# Altium integrated library Linear Technology PMIC-Switching Reg LTC1174-LTC3901.IntLib: 2647 symbols (part 294 of 310)
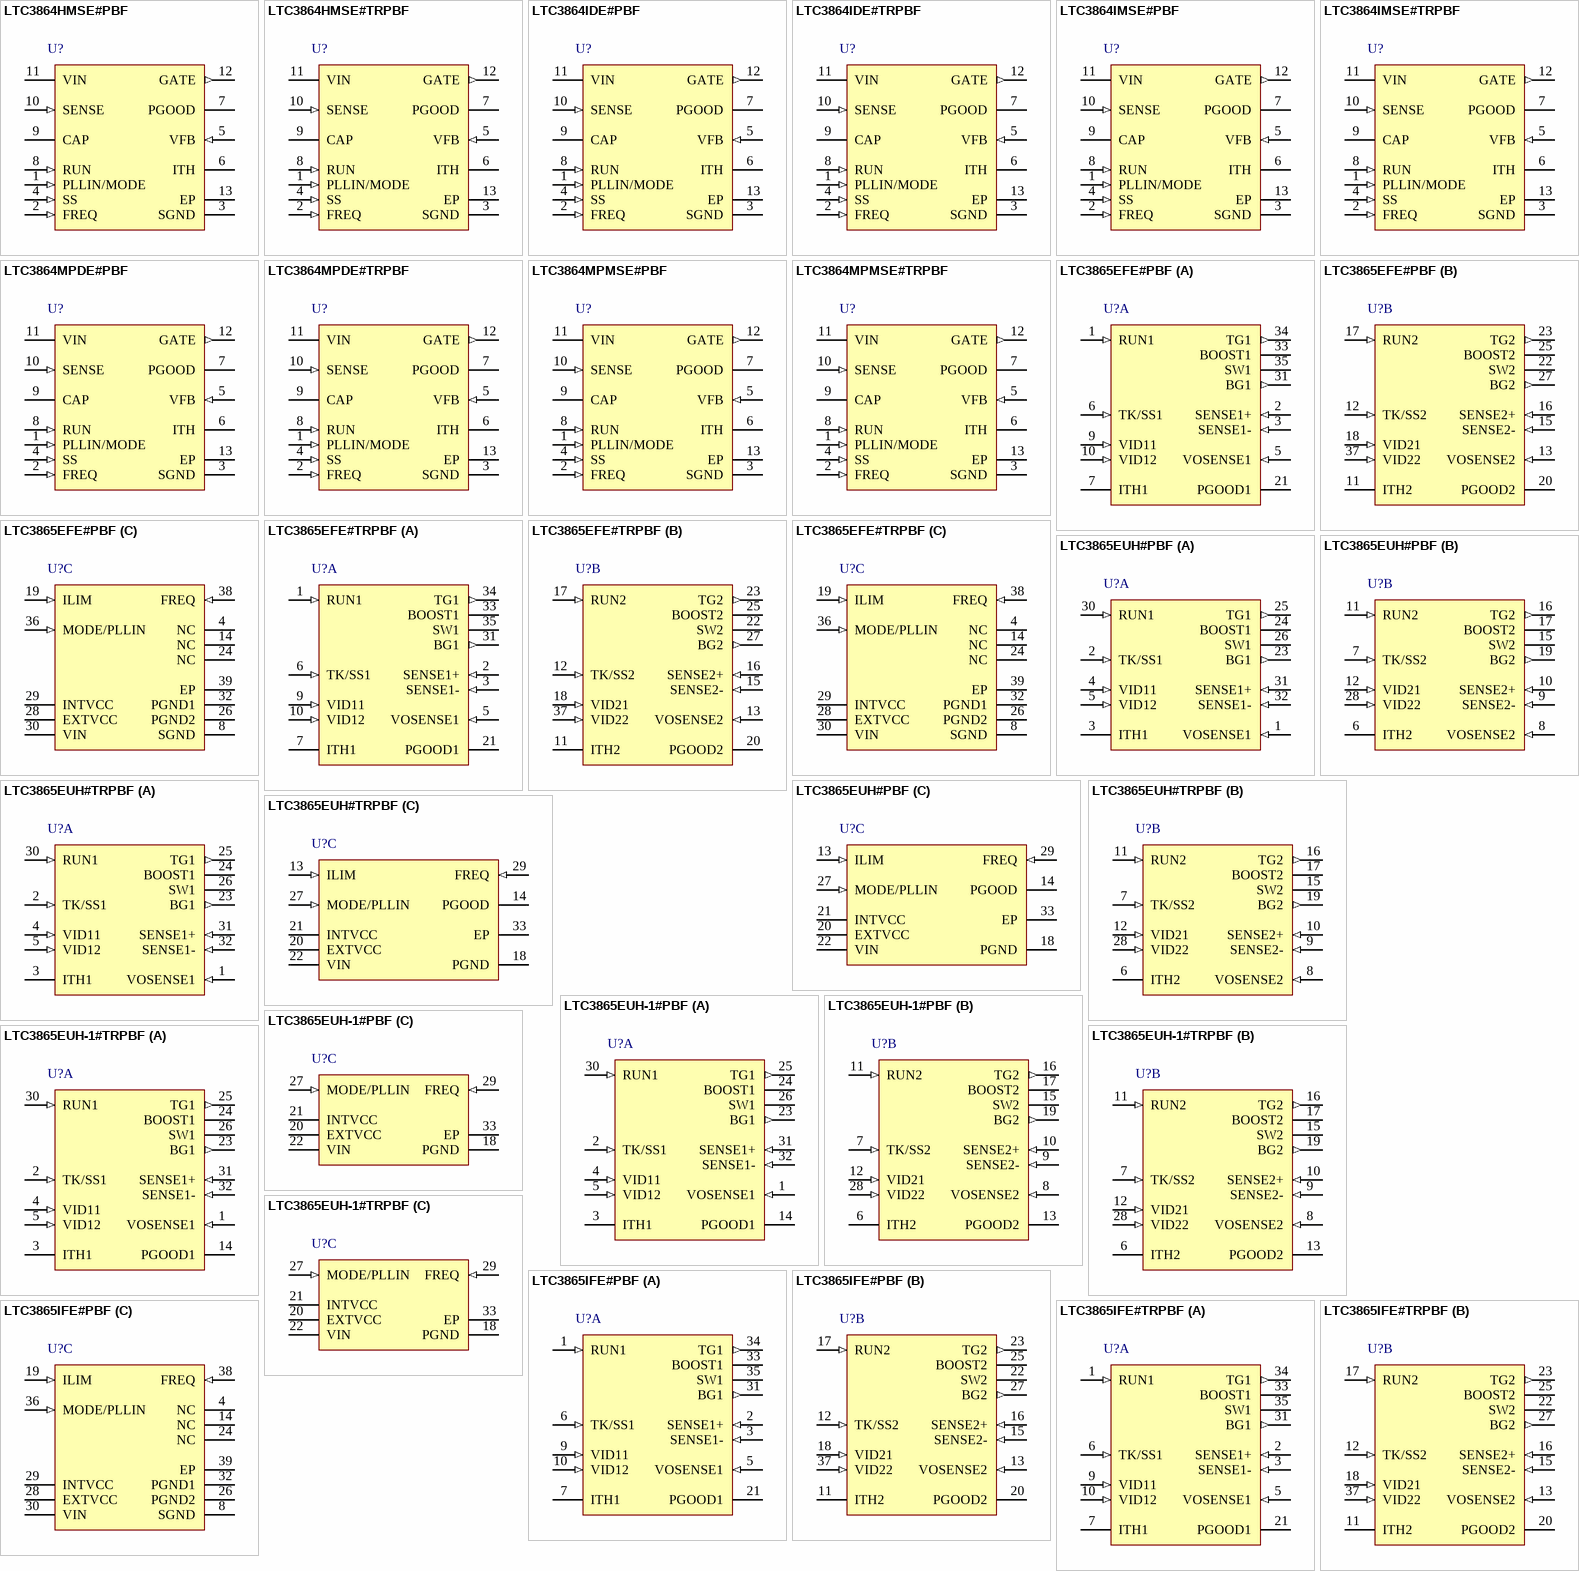
[diagram p294: symbols LTC3864HMSE#PBF to LTC3865IFE#TRPBF]

## LTC3865EUH#TRPBF
designator U?
Dual, 2-Phase Synchronous DC/DC Controller with Pin Selectable Output, Adjustable Current Limit, 32-pin QFN (UH-32), -40 to 125 degC, Pb-Free, Tape and Reel; Manufacturer: Linear Technology; PartNumber: LTC3865EUH#TRPBF; Number of Outputs: 2; PackageReference: UH-32; PackageDescription: 32-Pin Plastic QFN, Body 5 x 5 mm, Pitch 0.5 mm; Supplier 1: Digi-Key; Supplier Part Number 1: LTC3865EUH#TRPBF-ND; RoHS: TRUE; Code_JEDEC: MO-220
footprint LT-UH-32_N (QFN, 32-Leads, Body 5.1x5.1mm, Pitch 0.5mm, Thermal Pad 3.45X3.45mm, IPC Medium Density)
footprint LT-UH-32_L (QFN, 32-Leads, Body 5.1x5.1mm, Pitch 0.5mm, Thermal Pad 3.45X3.45mm, IPC High Density)
footprint LT-UH-32_M (QFN, 32-Leads, Body 5.1x5.1mm, Pitch 0.5mm, Thermal Pad 3.45X3.45mm, IPC Low Density)
part A pins: 1 VOSENSE1 (in) "When the internal programmable resistive divider is used, these pins must be connected to their corresponding outputs. When an external resistive divider is used, these pins are used for error amplifier feedback inputs. They (See Datasheet)", 2 TK/SS1 (in), 3 ITH1 "Current Control Thresholds and Error Amplifier Compensation Points. Each associated channels?current comparator tripping threshold increases with its ITH control voltage.", 4 VID11 (in) "VID Inputs for Output Voltage Programming. Tie these pins to INTVCC, GND or leave them floating to set the output voltages.", 5 VID12 (in) "VID Inputs for Output Voltage Programming. Tie these pins to INTVCC, GND or leave them floating to set the output voltages.", 23 BG1 (out) "Bottom Gate Driver Outputs. These pins drive the gates of the bottom N-channel MOSFETs between PGND and INTVCC.", 24 BOOST1 "Boosted Floating Driver Supplies. The (+) terminal of the booststrap capacitors connect to these pins. These pins swing from a diode voltage drop below INTVCC up to VIN + INTVCC.", 25 TG1 (out) "Top Gate Driver Outputs. These are the outputs of floating drivers with a voltage swing equal to INTVCC superimposed on the switch nodes voltages.", 26 SW1 "Switch Node Connections to Inductors. Voltage swing at these pins is from a Schottky diode (external) voltage drop below ground to VIN.", 30 RUN1 (in) "Run Control Inputs. A voltage above 1.22V on either pin turns on the IC. However, forcing either of these pins below 1.22V causes the IC to shut down the circuitry required for that particular channel. There are 1uA pull-up (See Datasheet)", 31 SENSE1+ (in) "Current Sense Comparator Inputs. The (+) inputs to the current comparators are normally connected to DCR sensing networks or current sensing resistors.", 32 SENSE1- (in) "Current Sense Comparator Inputs. The (-) inputs to the current comparators are connected to the outputs."
part B pins: 6 ITH2 "Current Control Thresholds and Error Amplifier Compensation Points. Each associated channels?current comparator tripping threshold increases with its ITH control voltage.", 7 TK/SS2 (in), 8 VOSENSE2 (in) "When the internal programmable resistive divider is used, these pins must be connected to their corresponding outputs. When an external resistive divider is used, these pins are used for error amplifier feedback inputs. They (See Datasheet)", 9 SENSE2- (in) "Current Sense Comparator Inputs. The (-) inputs to the current comparators are connected to the outputs.", 10 SENSE2+ (in) "Current Sense Comparator Inputs. The (+) inputs to the current comparators are normally connected to DCR sensing networks or current sensing resistors.", 11 RUN2 (in) "Run Control Inputs. A voltage above 1.22V on either pin turns on the IC. However, forcing either of these pins below 1.22V causes the IC to shut down the circuitry required for that particular channel. There are 1uA pull-up (See Datasheet)", 12 VID21 (in) "VID Inputs for Output Voltage Programming. Tie these pins to INTVCC, GND or leave them floating to set the output voltages.", 15 SW2 "Switch Node Connections to Inductors. Voltage swing at these pins is from a Schottky diode (external) voltage drop below ground to VIN.", 16 TG2 (out) "Top Gate Driver Outputs. These are the outputs of floating drivers with a voltage swing equal to INTVCC superimposed on the switch nodes voltages.", 17 BOOST2 "Boosted Floating Driver Supplies. The (+) terminal of the booststrap capacitors connect to these pins. These pins swing from a diode voltage drop below INTVCC up to VIN + INTVCC.", 19 BG2 (out) "Bottom Gate Driver Outputs. These pins drive the gates of the bottom N-channel MOSFETs between PGND and INTVCC.", 28 VID22 (in) "VID Inputs for Output Voltage Programming. Tie these pins to INTVCC, GND or leave them floating to set the output voltages."
part C pins: 13 ILIM (in) "Current Comparator Sense Voltage Range Inputs. This pin can be tied to SGND, FLOAT or INTVCC to set the maximum current sense threshold for each comparator. Current comparator sense voltage range of the LTC3865-1 is set to (See Datasheet)", 14 PGOOD (oc) "Co-Bonded Power Good Indicator Output for LTC3865 in QFN Package. Open-drain logic output that is pulled to ground when either channel output exceeds +/-10% regulation window, after the internal 20us power bad mask timer (See Datasheet)", 18 PGND (power) "Power Ground Pin. Connect this pin closely to the sources of the bottom N-channel MOSFETs, the (-) terminal of CVCC and the (-) terminal of CIN.", 20 EXTVCC (power) "External Power Input to an Internal Switch Connected to INTVCC. This switch closes and supplies the IC power, bypassing the internal low dropout regulator, whenever EXTVCC is higher than 4.7V. Do not exceed 6V on this pin.", 21 INTVCC (power) "Internal 5V Regulator Output. The control circuits are powered from this voltage. Decouple this pin to PGND with a minimum of 4.7uF low ESR tantalum or ceramic capacitor.", 22 VIN (power) "Main Input Supply. Decouple this pin to PGND with a capacitor (0.1uF to 1uF).", 27 MODE/PLLIN (in), 29 FREQ (in) "This pin sets the frequency of the internal oscillator. A constant current of 7.5uA is flowing out of this pin and a resistor connected to this pin sets its DC voltage, which in turn, sets the frequency of the internal (See Datasheet)", 33 EP (power) "Pin 33 is the Exposed Pad and available for QFN package."

## LTC3865EUH-1#PBF
designator U?
Dual, 2-Phase Synchronous DC/DC Controller with Pin Selectable Output, Two PGOOD Outputs and No Adjustable Current Limit, 32-pin QFN (UH-32), -40 to 125 degC, Pb-Free; Manufacturer: Linear Technology; PartNumber: LTC3865EUH-1#PBF; Number of Outputs: 2; PackageReference: UH-32; PackageDescription: 32-Pin Plastic QFN, Body 5 x 5 mm, Pitch 0.5 mm; Supplier 1: Digi-Key; Supplier Part Number 1: LTC3865EUH-1#PBF-ND; RoHS: TRUE; Code_JEDEC: MO-220
footprint LT-UH-32_N (QFN, 32-Leads, Body 5.1x5.1mm, Pitch 0.5mm, Thermal Pad 3.45X3.45mm, IPC Medium Density)
footprint LT-UH-32_L (QFN, 32-Leads, Body 5.1x5.1mm, Pitch 0.5mm, Thermal Pad 3.45X3.45mm, IPC High Density)
footprint LT-UH-32_M (QFN, 32-Leads, Body 5.1x5.1mm, Pitch 0.5mm, Thermal Pad 3.45X3.45mm, IPC Low Density)
part A pins: 1 VOSENSE1 (in) "When the internal programmable resistive divider is used, these pins must be connected to their corresponding outputs. When an external resistive divider is used, these pins are used for error amplifier feedback inputs. They (See Datasheet)", 2 TK/SS1 (in), 3 ITH1 "Current Control Thresholds and Error Amplifier Compensation Points. Each associated channels?current comparator tripping threshold increases with its ITH control voltage.", 4 VID11 (in) "VID Inputs for Output Voltage Programming. Tie these pins to INTVCC, GND or leave them floating to set the output voltages.", 5 VID12 (in) "VID Inputs for Output Voltage Programming. Tie these pins to INTVCC, GND or leave them floating to set the output voltages.", 14 PGOOD1 (oc) "Separate Power Good Indicator Outputs for LTC3865-1 in QFN package and LTC3865 in FE package. Open-drain logic output that is pulled to ground when the corresponding channel output exceeds +/-10% regulation window, after the (See Datasheet)", 23 BG1 (out) "Bottom Gate Driver Outputs. These pins drive the gates of the bottom N-channel MOSFETs between PGND and INTVCC.", 24 BOOST1 "Boosted Floating Driver Supplies. The (+) terminal of the booststrap capacitors connect to these pins. These pins swing from a diode voltage drop below INTVCC up to VIN + INTVCC.", 25 TG1 (out) "Top Gate Driver Outputs. These are the outputs of floating drivers with a voltage swing equal to INTVCC superimposed on the switch nodes voltages.", 26 SW1 "Switch Node Connections to Inductors. Voltage swing at these pins is from a Schottky diode (external) voltage drop below ground to VIN.", 30 RUN1 (in) "Run Control Inputs. A voltage above 1.22V on either pin turns on the IC. However, forcing either of these pins below 1.22V causes the IC to shut down the circuitry required for that particular channel. There are 1uA pull-up (See Datasheet)", 31 SENSE1+ (in) "Current Sense Comparator Inputs. The (+) inputs to the current comparators are normally connected to DCR sensing networks or current sensing resistors.", 32 SENSE1- (in) "Current Sense Comparator Inputs. The (-) inputs to the current comparators are connected to the outputs."
part B pins: 6 ITH2 "Current Control Thresholds and Error Amplifier Compensation Points. Each associated channels?current comparator tripping threshold increases with its ITH control voltage.", 7 TK/SS2 (in), 8 VOSENSE2 (in) "When the internal programmable resistive divider is used, these pins must be connected to their corresponding outputs. When an external resistive divider is used, these pins are used for error amplifier feedback inputs. They (See Datasheet)", 9 SENSE2- (in) "Current Sense Comparator Inputs. The (-) inputs to the current comparators are connected to the outputs.", 10 SENSE2+ (in) "Current Sense Comparator Inputs. The (+) inputs to the current comparators are normally connected to DCR sensing networks or current sensing resistors.", 11 RUN2 (in) "Run Control Inputs. A voltage above 1.22V on either pin turns on the IC. However, forcing either of these pins below 1.22V causes the IC to shut down the circuitry required for that particular channel. There are 1uA pull-up (See Datasheet)", 12 VID21 (in) "VID Inputs for Output Voltage Programming. Tie these pins to INTVCC, GND or leave them floating to set the output voltages.", 13 PGOOD2 (oc) "Separate Power Good Indicator Outputs for LTC3865-1 in QFN package and LTC3865 in FE package. Open-drain logic output that is pulled to ground when the corresponding channel output exceeds +/-10% regulation window, after the (See Datasheet)", 15 SW2 "Switch Node Connections to Inductors. Voltage swing at these pins is from a Schottky diode (external) voltage drop below ground to VIN.", 16 TG2 (out) "Top Gate Driver Outputs. These are the outputs of floating drivers with a voltage swing equal to INTVCC superimposed on the switch nodes voltages.", 17 BOOST2 "Boosted Floating Driver Supplies. The (+) terminal of the booststrap capacitors connect to these pins. These pins swing from a diode voltage drop below INTVCC up to VIN + INTVCC.", 19 BG2 (out) "Bottom Gate Driver Outputs. These pins drive the gates of the bottom N-channel MOSFETs between PGND and INTVCC.", 28 VID22 (in) "VID Inputs for Output Voltage Programming. Tie these pins to INTVCC, GND or leave them floating to set the output voltages."
part C pins: 18 PGND (power) "Power Ground Pin. Connect this pin closely to the sources of the bottom N-channel MOSFETs, the (-) terminal of CVCC and the (-) terminal of CIN.", 20 EXTVCC (power) "External Power Input to an Internal Switch Connected to INTVCC. This switch closes and supplies the IC power, bypassing the internal low dropout regulator, whenever EXTVCC is higher than 4.7V. Do not exceed 6V on this pin.", 21 INTVCC (power) "Internal 5V Regulator Output. The control circuits are powered from this voltage. Decouple this pin to PGND with a minimum of 4.7uF low ESR tantalum or ceramic capacitor.", 22 VIN (power) "Main Input Supply. Decouple this pin to PGND with a capacitor (0.1uF to 1uF).", 27 MODE/PLLIN (in), 29 FREQ (in) "This pin sets the frequency of the internal oscillator. A constant current of 7.5uA is flowing out of this pin and a resistor connected to this pin sets its DC voltage, which in turn, sets the frequency of the internal (See Datasheet)", 33 EP (power) "Pin 33 is the Exposed Pad and available for QFN package."

## LTC3865EUH-1#TRPBF
designator U?
Dual, 2-Phase Synchronous DC/DC Controller with Pin Selectable Output, Two PGOOD Outputs and No Adjustable Current Limit, 32-pin QFN (UH-32), -40 to 125 degC, Pb-Free, Tape and Reel; Manufacturer: Linear Technology; PartNumber: LTC3865EUH-1#TRPBF; Number of Outputs: 2; PackageReference: UH-32; PackageDescription: 32-Pin Plastic QFN, Body 5 x 5 mm, Pitch 0.5 mm; Supplier 1: Digi-Key; Supplier Part Number 1: LTC3865EUH-1#TRPBF-ND; RoHS: TRUE; Code_JEDEC: MO-220
footprint LT-UH-32_N (QFN, 32-Leads, Body 5.1x5.1mm, Pitch 0.5mm, Thermal Pad 3.45X3.45mm, IPC Medium Density)
footprint LT-UH-32_L (QFN, 32-Leads, Body 5.1x5.1mm, Pitch 0.5mm, Thermal Pad 3.45X3.45mm, IPC High Density)
footprint LT-UH-32_M (QFN, 32-Leads, Body 5.1x5.1mm, Pitch 0.5mm, Thermal Pad 3.45X3.45mm, IPC Low Density)
part A pins: 1 VOSENSE1 (in) "When the internal programmable resistive divider is used, these pins must be connected to their corresponding outputs. When an external resistive divider is used, these pins are used for error amplifier feedback inputs. They (See Datasheet)", 2 TK/SS1 (in), 3 ITH1 "Current Control Thresholds and Error Amplifier Compensation Points. Each associated channels?current comparator tripping threshold increases with its ITH control voltage.", 4 VID11 (in) "VID Inputs for Output Voltage Programming. Tie these pins to INTVCC, GND or leave them floating to set the output voltages.", 5 VID12 (in) "VID Inputs for Output Voltage Programming. Tie these pins to INTVCC, GND or leave them floating to set the output voltages.", 14 PGOOD1 (oc) "Separate Power Good Indicator Outputs for LTC3865-1 in QFN package and LTC3865 in FE package. Open-drain logic output that is pulled to ground when the corresponding channel output exceeds +/-10% regulation window, after the (See Datasheet)", 23 BG1 (out) "Bottom Gate Driver Outputs. These pins drive the gates of the bottom N-channel MOSFETs between PGND and INTVCC.", 24 BOOST1 "Boosted Floating Driver Supplies. The (+) terminal of the booststrap capacitors connect to these pins. These pins swing from a diode voltage drop below INTVCC up to VIN + INTVCC.", 25 TG1 (out) "Top Gate Driver Outputs. These are the outputs of floating drivers with a voltage swing equal to INTVCC superimposed on the switch nodes voltages.", 26 SW1 "Switch Node Connections to Inductors. Voltage swing at these pins is from a Schottky diode (external) voltage drop below ground to VIN.", 30 RUN1 (in) "Run Control Inputs. A voltage above 1.22V on either pin turns on the IC. However, forcing either of these pins below 1.22V causes the IC to shut down the circuitry required for that particular channel. There are 1uA pull-up (See Datasheet)", 31 SENSE1+ (in) "Current Sense Comparator Inputs. The (+) inputs to the current comparators are normally connected to DCR sensing networks or current sensing resistors.", 32 SENSE1- (in) "Current Sense Comparator Inputs. The (-) inputs to the current comparators are connected to the outputs."
part B pins: 6 ITH2 "Current Control Thresholds and Error Amplifier Compensation Points. Each associated channels?current comparator tripping threshold increases with its ITH control voltage.", 7 TK/SS2 (in), 8 VOSENSE2 (in) "When the internal programmable resistive divider is used, these pins must be connected to their corresponding outputs. When an external resistive divider is used, these pins are used for error amplifier feedback inputs. They (See Datasheet)", 9 SENSE2- (in) "Current Sense Comparator Inputs. The (-) inputs to the current comparators are connected to the outputs.", 10 SENSE2+ (in) "Current Sense Comparator Inputs. The (+) inputs to the current comparators are normally connected to DCR sensing networks or current sensing resistors.", 11 RUN2 (in) "Run Control Inputs. A voltage above 1.22V on either pin turns on the IC. However, forcing either of these pins below 1.22V causes the IC to shut down the circuitry required for that particular channel. There are 1uA pull-up (See Datasheet)", 12 VID21 (in) "VID Inputs for Output Voltage Programming. Tie these pins to INTVCC, GND or leave them floating to set the output voltages.", 13 PGOOD2 (oc) "Separate Power Good Indicator Outputs for LTC3865-1 in QFN package and LTC3865 in FE package. Open-drain logic output that is pulled to ground when the corresponding channel output exceeds +/-10% regulation window, after the (See Datasheet)", 15 SW2 "Switch Node Connections to Inductors. Voltage swing at these pins is from a Schottky diode (external) voltage drop below ground to VIN.", 16 TG2 (out) "Top Gate Driver Outputs. These are the outputs of floating drivers with a voltage swing equal to INTVCC superimposed on the switch nodes voltages.", 17 BOOST2 "Boosted Floating Driver Supplies. The (+) terminal of the booststrap capacitors connect to these pins. These pins swing from a diode voltage drop below INTVCC up to VIN + INTVCC.", 19 BG2 (out) "Bottom Gate Driver Outputs. These pins drive the gates of the bottom N-channel MOSFETs between PGND and INTVCC.", 28 VID22 (in) "VID Inputs for Output Voltage Programming. Tie these pins to INTVCC, GND or leave them floating to set the output voltages."
part C pins: 18 PGND (power) "Power Ground Pin. Connect this pin closely to the sources of the bottom N-channel MOSFETs, the (-) terminal of CVCC and the (-) terminal of CIN.", 20 EXTVCC (power) "External Power Input to an Internal Switch Connected to INTVCC. This switch closes and supplies the IC power, bypassing the internal low dropout regulator, whenever EXTVCC is higher than 4.7V. Do not exceed 6V on this pin.", 21 INTVCC (power) "Internal 5V Regulator Output. The control circuits are powered from this voltage. Decouple this pin to PGND with a minimum of 4.7uF low ESR tantalum or ceramic capacitor.", 22 VIN (power) "Main Input Supply. Decouple this pin to PGND with a capacitor (0.1uF to 1uF).", 27 MODE/PLLIN (in), 29 FREQ (in) "This pin sets the frequency of the internal oscillator. A constant current of 7.5uA is flowing out of this pin and a resistor connected to this pin sets its DC voltage, which in turn, sets the frequency of the internal (See Datasheet)", 33 EP (power) "Pin 33 is the Exposed Pad and available for QFN package."

## LTC3865IFE#PBF
designator U?
Dual, 2-Phase Synchronous DC/DC Controller with Pin Selectable Output, Adjustable Current Limit, 38-pin SOP (FE-38-EPV-AA), -40 to 125 degC, Pb-Free; Manufacturer: Linear Technology; PartNumber: LTC3865IFE#PBF; Number of Outputs: 2; PackageReference: FE-38; PackageDescription: 38-Pin Plastic TSSOP, Body 9.7 x 4.4 mm, Pitch 0.5 mm; Supplier 1: Digi-Key; Supplier Part Number 1: LTC3865IFE#PBF-ND; RoHS: TRUE
footprint LT-FE-38-EPV-AA_N (SOP, 38-Leads, Body 9.8x4.5mm, Pitch 0.5mm, Thermal Pad 4.75x2.74mm, IPC Medium Density)
footprint LT-FE-38-EPV-AA_L (SOP, 38-Leads, Body 9.8x4.5mm, Pitch 0.5mm, Thermal Pad 4.75x2.74mm, IPC High Density)
footprint LT-FE-38-EPV-AA_M (SOP, 38-Leads, Body 9.8x4.5mm, Pitch 0.5mm, Thermal Pad 4.75x2.74mm, IPC Low Density)
part A pins: 1 RUN1 (in) "Run Control Inputs. A voltage above 1.22V on either pin turns on the IC. However, forcing either of these pins below 1.22V causes the IC to shut down the circuitry required for that particular channel. There are 1uA pull-up (See Datasheet)", 2 SENSE1+ (in) "Current Sense Comparator Inputs. The (+) inputs to the current comparators are normally connected to DCR sensing networks or current sensing resistors.", 3 SENSE1- (in) "Current Sense Comparator Inputs. The (-) inputs to the current comparators are connected to the outputs", 5 VOSENSE1 (in) "When the internal programmable resistive divider is used, these pins must be connected to their corresponding outputs. When an external resistive divider is used, these pins are used for error amplifier feedback inputs. They (See Datasheet)", 6 TK/SS1 (in) "Output Voltage Tracking and Soft-Start Inputs. When one channel is configured to be master of the two channels, a capacitor to ground at this pin sets the ramp rate for the master channel’s output voltage. When a channe(See Datasheet)", 7 ITH1 "Current Control Thresholds and Error Amplifier Compensation Points. Each associated channels?current comparator tripping threshold increases with its ITH control voltage", 9 VID11 (in) "VID Inputs for Output Voltage Programming. Tie these pins to INTVCC, GND or leave them floating to set the output voltages.", 10 VID12 (in) "VID Inputs for Output Voltage Programming. Tie these pins to INTVCC, GND or leave them floating to set the output voltages.", 21 PGOOD1 (oc) "Co-Bonded Power Good Indicator Output for LTC3865 in QFN Package. Open-drain logic output that is pulled to ground when either channel output exceeds +/-10% regulation window, after the internal 20us power bad mask timer (See Datasheet)", 31 BG1 (out) "Bottom Gate Driver Outputs. These pins drive the gates of the bottom N-channel MOSFETs between PGND and INTVCC.", 33 BOOST1 "Boosted Floating Driver Supplies. The (+) terminal of the booststrap capacitors connect to these pins. These pins swing from a diode voltage drop below INTVCC up to VIN + INTVCC.", 34 TG1 (out) "Top Gate Driver Outputs. These are the outputs of floating drivers with a voltage swing equal to INTVCC superimposed on the switch nodes voltages.", 35 SW1 "Switch Node Connections to Inductors. Voltage swing at these pins is from a Schottky diode (external) voltage drop below ground to VIN."
part B pins: 11 ITH2 "Current Control Thresholds and Error Amplifier Compensation Points. Each associated channels?current comparator tripping threshold increases with its ITH control voltage", 12 TK/SS2 (in) "Output Voltage Tracking and Soft-Start Inputs. When one channel is configured to be master of the two channels, a capacitor to ground at this pin sets the ramp rate for the master channel’s output voltage. When a channe(See Datasheet)", 13 VOSENSE2 (in) "When the internal programmable resistive divider is used, these pins must be connected to their corresponding outputs. When an external resistive divider is used, these pins are used for error amplifier feedback inputs. They (See Datasheet)", 15 SENSE2- (in) "Current Sense Comparator Inputs. The (-) inputs to the current comparators are connected to the outputs", 16 SENSE2+ (in) "Current Sense Comparator Inputs. The (+) inputs to the current comparators are normally connected to DCR sensing networks or current sensing resistors.", 17 RUN2 (in) "Run Control Inputs. A voltage above 1.22V on either pin turns on the IC. However, forcing either of these pins below 1.22V causes the IC to shut down the circuitry required for that particular channel. There are 1uA pull-up (See Datasheet)", 18 VID21 (in) "VID Inputs for Output Voltage Programming. Tie these pins to INTVCC, GND or leave them floating to set the output voltages.", 20 PGOOD2 (oc) "Co-Bonded Power Good Indicator Output for LTC3865 in QFN Package. Open-drain logic output that is pulled to ground when either channel output exceeds +/-10% regulation window, after the internal 20us power bad mask timer (See Datasheet)", 22 SW2 "Switch Node Connections to Inductors. Voltage swing at these pins is from a Schottky diode (external) voltage drop below ground to VIN.", 23 TG2 (out) "Top Gate Driver Outputs. These are the outputs of floating drivers with a voltage swing equal to INTVCC superimposed on the switch nodes voltages.", 25 BOOST2 "Boosted Floating Driver Supplies. The (+) terminal of the booststrap capacitors connect to these pins. These pins swing from a diode voltage drop below INTVCC up to VIN + INTVCC.", 27 BG2 (out) "Bottom Gate Driver Outputs. These pins drive the gates of the bottom N-channel MOSFETs between PGND and INTVCC.", 37 VID22 (in) "VID Inputs for Output Voltage Programming. Tie these pins to INTVCC, GND or leave them floating to set the output voltages."
part C pins: 4 NC, 8 SGND (power) "Signal Ground. Must be soldered to PCB, providing a local ground for the control components of the IC, and be tied to the PGND pin under the IC.", 14 NC, 19 ILIM (in) "Current Comparator Sense Voltage Range Inputs. This pin can be tied to SGND, FLOAT or INTVCC to set the maximum current sense threshold for each comparator. Current comparator sense voltage range of the LTC3865-1 is set to (See Datasheet)", 24 NC, 26 PGND2 (power) "Power Ground Pin. Connect this pin closely to the sources of the bottom N-channel MOSFETs, the (-) terminal of CVCC and the (-) terminal of CIN.", 28 EXTVCC (power) "External Power Input to an Internal Switch Connected to INTVCC. This switch closes and supplies the IC power, bypassing the internal low dropout regulator, whenever EXTVCC is higher than 4.7V. Do not exceed 6V on this pin.", 29 INTVCC (power) "Internal 5V Regulator Output. The control circuits are powered from this voltage. Decouple this pin to PGND with a minimum of 4.7uF low ESR tantalum or ceramic capacitor.", 30 VIN (power) "Main Input Supply. Decouple this pin to PGND with a capacitor (0.1uF to 1uF).", 32 PGND1 (power) "Power Ground Pin. Connect this pin closely to the sources of the bottom N-channel MOSFETs, the (-) terminal of CVCC and the (-) terminal of CIN.", 36 MODE/PLLIN (in) "Force Continuous Mode, Burst Mode or Pulse-Skip Mode Selection Pin and External Synchronization Input to Phase Detector Pin. Connect this pin to SGND to force both channels in continuous mode of operation. Connect to INTVCC (See Datasheet)", 38 FREQ (in) "This pin sets the frequency of the internal oscillator. A constant current of 7.5uA is flowing out of this pin and a resistor connected to this pin setsm its DC voltage, which in turn, sets the frequency of the internal (See Datasheet)", 39 EP (power) "Signal Ground. Must be soldered to PCB, providing a local ground for the control components of the IC, and be tied to the PGND pin under the IC."

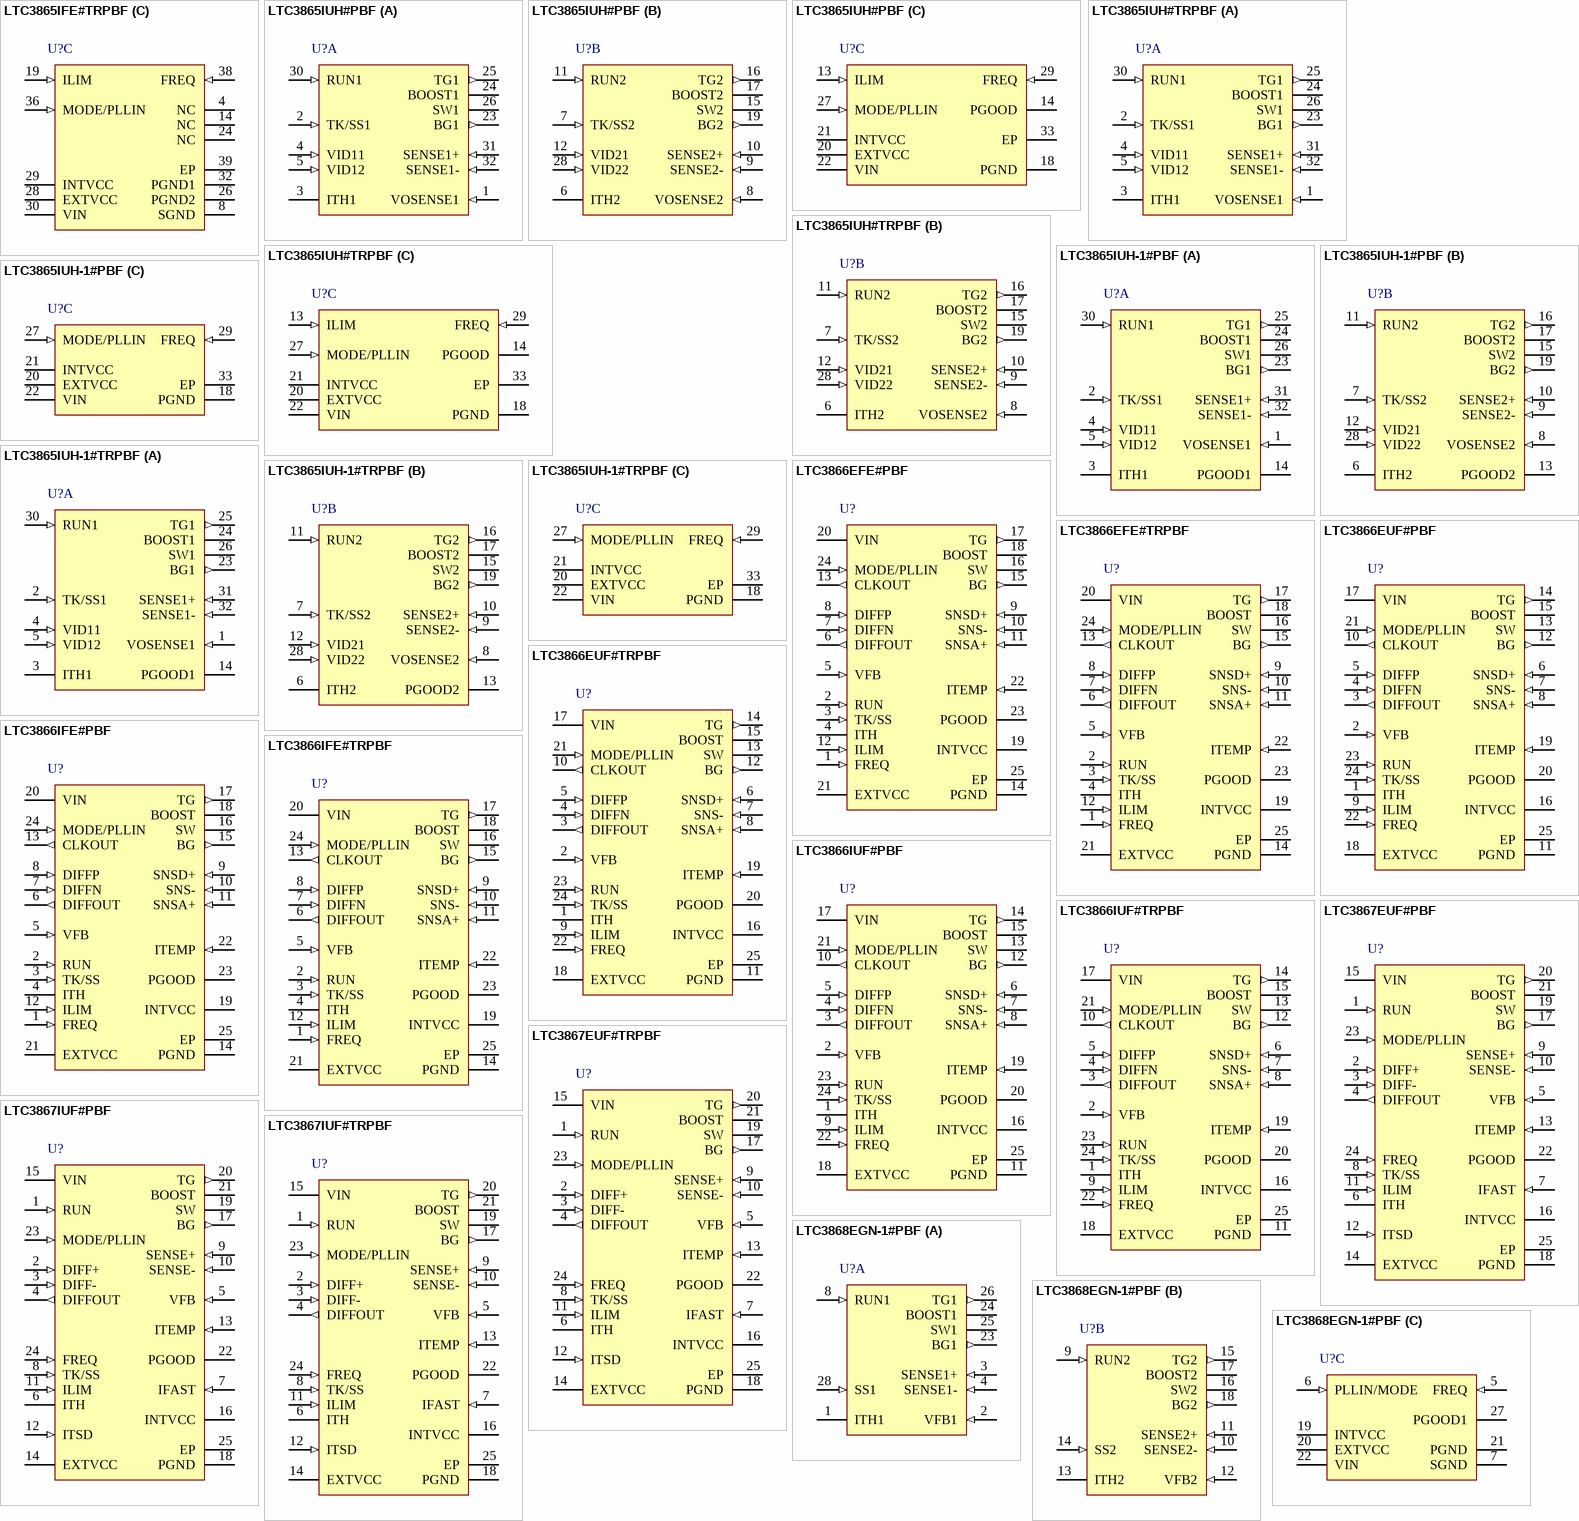
[diagram p107: symbols LTC3865IFE#TRPBF to LTC3868EGN-1#PBF]

## LTC3865IFE#TRPBF
designator U?
Dual, 2-Phase Synchronous DC/DC Controller with Pin Selectable Output, Adjustable Current Limit, 38-pin SOP (FE-38-EPV-AA), -40 to 125 degC, Pb-Free, Tape and Reel; Manufacturer: Linear Technology; PartNumber: LTC3865IFE#TRPBF; Number of Outputs: 2; PackageReference: FE-38; PackageDescription: 38-Pin Plastic TSSOP, Body 9.7 x 4.4 mm, Pitch 0.5 mm; Supplier 1: Digi-Key; Supplier Part Number 1: LTC3865IFE#TRPBF-ND; RoHS: TRUE
footprint LT-FE-38-EPV-AA_N (SOP, 38-Leads, Body 9.8x4.5mm, Pitch 0.5mm, Thermal Pad 4.75x2.74mm, IPC Medium Density)
footprint LT-FE-38-EPV-AA_L (SOP, 38-Leads, Body 9.8x4.5mm, Pitch 0.5mm, Thermal Pad 4.75x2.74mm, IPC High Density)
footprint LT-FE-38-EPV-AA_M (SOP, 38-Leads, Body 9.8x4.5mm, Pitch 0.5mm, Thermal Pad 4.75x2.74mm, IPC Low Density)
part A pins: 1 RUN1 (in) "Run Control Inputs. A voltage above 1.22V on either pin turns on the IC. However, forcing either of these pins below 1.22V causes the IC to shut down the circuitry required for that particular channel. There are 1uA pull-up (See Datasheet)", 2 SENSE1+ (in) "Current Sense Comparator Inputs. The (+) inputs to the current comparators are normally connected to DCR sensing networks or current sensing resistors.", 3 SENSE1- (in) "Current Sense Comparator Inputs. The (-) inputs to the current comparators are connected to the outputs", 5 VOSENSE1 (in) "When the internal programmable resistive divider is used, these pins must be connected to their corresponding outputs. When an external resistive divider is used, these pins are used for error amplifier feedback inputs. They (See Datasheet)", 6 TK/SS1 (in) "Output Voltage Tracking and Soft-Start Inputs. When one channel is configured to be master of the two channels, a capacitor to ground at this pin sets the ramp rate for the master channel’s output voltage. When a channe(See Datasheet)", 7 ITH1 "Current Control Thresholds and Error Amplifier Compensation Points. Each associated channels?current comparator tripping threshold increases with its ITH control voltage", 9 VID11 (in) "VID Inputs for Output Voltage Programming. Tie these pins to INTVCC, GND or leave them floating to set the output voltages.", 10 VID12 (in) "VID Inputs for Output Voltage Programming. Tie these pins to INTVCC, GND or leave them floating to set the output voltages.", 21 PGOOD1 (oc) "Co-Bonded Power Good Indicator Output for LTC3865 in QFN Package. Open-drain logic output that is pulled to ground when either channel output exceeds +/-10% regulation window, after the internal 20us power bad mask timer (See Datasheet)", 31 BG1 (out) "Bottom Gate Driver Outputs. These pins drive the gates of the bottom N-channel MOSFETs between PGND and INTVCC.", 33 BOOST1 "Boosted Floating Driver Supplies. The (+) terminal of the booststrap capacitors connect to these pins. These pins swing from a diode voltage drop below INTVCC up to VIN + INTVCC.", 34 TG1 (out) "Top Gate Driver Outputs. These are the outputs of floating drivers with a voltage swing equal to INTVCC superimposed on the switch nodes voltages.", 35 SW1 "Switch Node Connections to Inductors. Voltage swing at these pins is from a Schottky diode (external) voltage drop below ground to VIN."
part B pins: 11 ITH2 "Current Control Thresholds and Error Amplifier Compensation Points. Each associated channels?current comparator tripping threshold increases with its ITH control voltage", 12 TK/SS2 (in) "Output Voltage Tracking and Soft-Start Inputs. When one channel is configured to be master of the two channels, a capacitor to ground at this pin sets the ramp rate for the master channel’s output voltage. When a channe(See Datasheet)", 13 VOSENSE2 (in) "When the internal programmable resistive divider is used, these pins must be connected to their corresponding outputs. When an external resistive divider is used, these pins are used for error amplifier feedback inputs. They (See Datasheet)", 15 SENSE2- (in) "Current Sense Comparator Inputs. The (-) inputs to the current comparators are connected to the outputs", 16 SENSE2+ (in) "Current Sense Comparator Inputs. The (+) inputs to the current comparators are normally connected to DCR sensing networks or current sensing resistors.", 17 RUN2 (in) "Run Control Inputs. A voltage above 1.22V on either pin turns on the IC. However, forcing either of these pins below 1.22V causes the IC to shut down the circuitry required for that particular channel. There are 1uA pull-up (See Datasheet)", 18 VID21 (in) "VID Inputs for Output Voltage Programming. Tie these pins to INTVCC, GND or leave them floating to set the output voltages.", 20 PGOOD2 (oc) "Co-Bonded Power Good Indicator Output for LTC3865 in QFN Package. Open-drain logic output that is pulled to ground when either channel output exceeds +/-10% regulation window, after the internal 20us power bad mask timer (See Datasheet)", 22 SW2 "Switch Node Connections to Inductors. Voltage swing at these pins is from a Schottky diode (external) voltage drop below ground to VIN.", 23 TG2 (out) "Top Gate Driver Outputs. These are the outputs of floating drivers with a voltage swing equal to INTVCC superimposed on the switch nodes voltages.", 25 BOOST2 "Boosted Floating Driver Supplies. The (+) terminal of the booststrap capacitors connect to these pins. These pins swing from a diode voltage drop below INTVCC up to VIN + INTVCC.", 27 BG2 (out) "Bottom Gate Driver Outputs. These pins drive the gates of the bottom N-channel MOSFETs between PGND and INTVCC.", 37 VID22 (in) "VID Inputs for Output Voltage Programming. Tie these pins to INTVCC, GND or leave them floating to set the output voltages."
part C pins: 4 NC, 8 SGND (power) "Signal Ground. Must be soldered to PCB, providing a local ground for the control components of the IC, and be tied to the PGND pin under the IC.", 14 NC, 19 ILIM (in) "Current Comparator Sense Voltage Range Inputs. This pin can be tied to SGND, FLOAT or INTVCC to set the maximum current sense threshold for each comparator. Current comparator sense voltage range of the LTC3865-1 is set to (See Datasheet)", 24 NC, 26 PGND2 (power) "Power Ground Pin. Connect this pin closely to the sources of the bottom N-channel MOSFETs, the (-) terminal of CVCC and the (-) terminal of CIN.", 28 EXTVCC (power) "External Power Input to an Internal Switch Connected to INTVCC. This switch closes and supplies the IC power, bypassing the internal low dropout regulator, whenever EXTVCC is higher than 4.7V. Do not exceed 6V on this pin.", 29 INTVCC (power) "Internal 5V Regulator Output. The control circuits are powered from this voltage. Decouple this pin to PGND with a minimum of 4.7uF low ESR tantalum or ceramic capacitor.", 30 VIN (power) "Main Input Supply. Decouple this pin to PGND with a capacitor (0.1uF to 1uF).", 32 PGND1 (power) "Power Ground Pin. Connect this pin closely to the sources of the bottom N-channel MOSFETs, the (-) terminal of CVCC and the (-) terminal of CIN.", 36 MODE/PLLIN (in) "Force Continuous Mode, Burst Mode or Pulse-Skip Mode Selection Pin and External Synchronization Input to Phase Detector Pin. Connect this pin to SGND to force both channels in continuous mode of operation. Connect to INTVCC (See Datasheet)", 38 FREQ (in) "This pin sets the frequency of the internal oscillator. A constant current of 7.5uA is flowing out of this pin and a resistor connected to this pin setsm its DC voltage, which in turn, sets the frequency of the internal (See Datasheet)", 39 EP (power) "Signal Ground. Must be soldered to PCB, providing a local ground for the control components of the IC, and be tied to the PGND pin under the IC."

## LTC3865IUH#PBF
designator U?
Dual, 2-Phase Synchronous DC/DC Controller with Pin Selectable Output, Adjustable Current Limit, 32-pin QFN (UH-32), -40 to 125 degC, Pb-Free; Manufacturer: Linear Technology; PartNumber: LTC3865IUH#PBF; Number of Outputs: 2; PackageReference: UH-32; PackageDescription: 32-Pin Plastic QFN, Body 5 x 5 mm, Pitch 0.5 mm; Supplier 1: Digi-Key; Supplier Part Number 1: LTC3865IUH#PBF-ND; RoHS: TRUE; Code_JEDEC: MO-220
footprint LT-UH-32_N (QFN, 32-Leads, Body 5.1x5.1mm, Pitch 0.5mm, Thermal Pad 3.45X3.45mm, IPC Medium Density)
footprint LT-UH-32_L (QFN, 32-Leads, Body 5.1x5.1mm, Pitch 0.5mm, Thermal Pad 3.45X3.45mm, IPC High Density)
footprint LT-UH-32_M (QFN, 32-Leads, Body 5.1x5.1mm, Pitch 0.5mm, Thermal Pad 3.45X3.45mm, IPC Low Density)
part A pins: 1 VOSENSE1 (in) "When the internal programmable resistive divider is used, these pins must be connected to their corresponding outputs. When an external resistive divider is used, these pins are used for error amplifier feedback inputs. They (See Datasheet)", 2 TK/SS1 (in), 3 ITH1 "Current Control Thresholds and Error Amplifier Compensation Points. Each associated channels?current comparator tripping threshold increases with its ITH control voltage.", 4 VID11 (in) "VID Inputs for Output Voltage Programming. Tie these pins to INTVCC, GND or leave them floating to set the output voltages.", 5 VID12 (in) "VID Inputs for Output Voltage Programming. Tie these pins to INTVCC, GND or leave them floating to set the output voltages.", 23 BG1 (out) "Bottom Gate Driver Outputs. These pins drive the gates of the bottom N-channel MOSFETs between PGND and INTVCC.", 24 BOOST1 "Boosted Floating Driver Supplies. The (+) terminal of the booststrap capacitors connect to these pins. These pins swing from a diode voltage drop below INTVCC up to VIN + INTVCC.", 25 TG1 (out) "Top Gate Driver Outputs. These are the outputs of floating drivers with a voltage swing equal to INTVCC superimposed on the switch nodes voltages.", 26 SW1 "Switch Node Connections to Inductors. Voltage swing at these pins is from a Schottky diode (external) voltage drop below ground to VIN.", 30 RUN1 (in) "Run Control Inputs. A voltage above 1.22V on either pin turns on the IC. However, forcing either of these pins below 1.22V causes the IC to shut down the circuitry required for that particular channel. There are 1uA pull-up (See Datasheet)", 31 SENSE1+ (in) "Current Sense Comparator Inputs. The (+) inputs to the current comparators are normally connected to DCR sensing networks or current sensing resistors.", 32 SENSE1- (in) "Current Sense Comparator Inputs. The (-) inputs to the current comparators are connected to the outputs."
part B pins: 6 ITH2 "Current Control Thresholds and Error Amplifier Compensation Points. Each associated channels?current comparator tripping threshold increases with its ITH control voltage.", 7 TK/SS2 (in), 8 VOSENSE2 (in) "When the internal programmable resistive divider is used, these pins must be connected to their corresponding outputs. When an external resistive divider is used, these pins are used for error amplifier feedback inputs. They (See Datasheet)", 9 SENSE2- (in) "Current Sense Comparator Inputs. The (-) inputs to the current comparators are connected to the outputs.", 10 SENSE2+ (in) "Current Sense Comparator Inputs. The (+) inputs to the current comparators are normally connected to DCR sensing networks or current sensing resistors.", 11 RUN2 (in) "Run Control Inputs. A voltage above 1.22V on either pin turns on the IC. However, forcing either of these pins below 1.22V causes the IC to shut down the circuitry required for that particular channel. There are 1uA pull-up (See Datasheet)", 12 VID21 (in) "VID Inputs for Output Voltage Programming. Tie these pins to INTVCC, GND or leave them floating to set the output voltages.", 15 SW2 "Switch Node Connections to Inductors. Voltage swing at these pins is from a Schottky diode (external) voltage drop below ground to VIN.", 16 TG2 (out) "Top Gate Driver Outputs. These are the outputs of floating drivers with a voltage swing equal to INTVCC superimposed on the switch nodes voltages.", 17 BOOST2 "Boosted Floating Driver Supplies. The (+) terminal of the booststrap capacitors connect to these pins. These pins swing from a diode voltage drop below INTVCC up to VIN + INTVCC.", 19 BG2 (out) "Bottom Gate Driver Outputs. These pins drive the gates of the bottom N-channel MOSFETs between PGND and INTVCC.", 28 VID22 (in) "VID Inputs for Output Voltage Programming. Tie these pins to INTVCC, GND or leave them floating to set the output voltages."
part C pins: 13 ILIM (in) "Current Comparator Sense Voltage Range Inputs. This pin can be tied to SGND, FLOAT or INTVCC to set the maximum current sense threshold for each comparator. Current comparator sense voltage range of the LTC3865-1 is set to (See Datasheet)", 14 PGOOD (oc) "Co-Bonded Power Good Indicator Output for LTC3865 in QFN Package. Open-drain logic output that is pulled to ground when either channel output exceeds +/-10% regulation window, after the internal 20us power bad mask timer (See Datasheet)", 18 PGND (power) "Power Ground Pin. Connect this pin closely to the sources of the bottom N-channel MOSFETs, the (-) terminal of CVCC and the (-) terminal of CIN.", 20 EXTVCC (power) "External Power Input to an Internal Switch Connected to INTVCC. This switch closes and supplies the IC power, bypassing the internal low dropout regulator, whenever EXTVCC is higher than 4.7V. Do not exceed 6V on this pin.", 21 INTVCC (power) "Internal 5V Regulator Output. The control circuits are powered from this voltage. Decouple this pin to PGND with a minimum of 4.7uF low ESR tantalum or ceramic capacitor.", 22 VIN (power) "Main Input Supply. Decouple this pin to PGND with a capacitor (0.1uF to 1uF).", 27 MODE/PLLIN (in), 29 FREQ (in) "This pin sets the frequency of the internal oscillator. A constant current of 7.5uA is flowing out of this pin and a resistor connected to this pin sets its DC voltage, which in turn, sets the frequency of the internal (See Datasheet)", 33 EP (power) "Pin 33 is the Exposed Pad and available for QFN package."

## LTC3865IUH#TRPBF
designator U?
Dual, 2-Phase Synchronous DC/DC Controller with Pin Selectable Output, Adjustable Current Limit, 32-pin QFN (UH-32), -40 to 125 degC, Pb-Free, Tape and Reel; Manufacturer: Linear Technology; PartNumber: LTC3865IUH#TRPBF; Number of Outputs: 2; PackageReference: UH-32; PackageDescription: 32-Pin Plastic QFN, Body 5 x 5 mm, Pitch 0.5 mm; Supplier 1: Digi-Key; Supplier Part Number 1: LTC3865IUH#TRPBF-ND; RoHS: TRUE; Code_JEDEC: MO-220
footprint LT-UH-32_N (QFN, 32-Leads, Body 5.1x5.1mm, Pitch 0.5mm, Thermal Pad 3.45X3.45mm, IPC Medium Density)
footprint LT-UH-32_L (QFN, 32-Leads, Body 5.1x5.1mm, Pitch 0.5mm, Thermal Pad 3.45X3.45mm, IPC High Density)
footprint LT-UH-32_M (QFN, 32-Leads, Body 5.1x5.1mm, Pitch 0.5mm, Thermal Pad 3.45X3.45mm, IPC Low Density)
part A pins: 1 VOSENSE1 (in) "When the internal programmable resistive divider is used, these pins must be connected to their corresponding outputs. When an external resistive divider is used, these pins are used for error amplifier feedback inputs. They (See Datasheet)", 2 TK/SS1 (in), 3 ITH1 "Current Control Thresholds and Error Amplifier Compensation Points. Each associated channels?current comparator tripping threshold increases with its ITH control voltage.", 4 VID11 (in) "VID Inputs for Output Voltage Programming. Tie these pins to INTVCC, GND or leave them floating to set the output voltages.", 5 VID12 (in) "VID Inputs for Output Voltage Programming. Tie these pins to INTVCC, GND or leave them floating to set the output voltages.", 23 BG1 (out) "Bottom Gate Driver Outputs. These pins drive the gates of the bottom N-channel MOSFETs between PGND and INTVCC.", 24 BOOST1 "Boosted Floating Driver Supplies. The (+) terminal of the booststrap capacitors connect to these pins. These pins swing from a diode voltage drop below INTVCC up to VIN + INTVCC.", 25 TG1 (out) "Top Gate Driver Outputs. These are the outputs of floating drivers with a voltage swing equal to INTVCC superimposed on the switch nodes voltages.", 26 SW1 "Switch Node Connections to Inductors. Voltage swing at these pins is from a Schottky diode (external) voltage drop below ground to VIN.", 30 RUN1 (in) "Run Control Inputs. A voltage above 1.22V on either pin turns on the IC. However, forcing either of these pins below 1.22V causes the IC to shut down the circuitry required for that particular channel. There are 1uA pull-up (See Datasheet)", 31 SENSE1+ (in) "Current Sense Comparator Inputs. The (+) inputs to the current comparators are normally connected to DCR sensing networks or current sensing resistors.", 32 SENSE1- (in) "Current Sense Comparator Inputs. The (-) inputs to the current comparators are connected to the outputs."
part B pins: 6 ITH2 "Current Control Thresholds and Error Amplifier Compensation Points. Each associated channels?current comparator tripping threshold increases with its ITH control voltage.", 7 TK/SS2 (in), 8 VOSENSE2 (in) "When the internal programmable resistive divider is used, these pins must be connected to their corresponding outputs. When an external resistive divider is used, these pins are used for error amplifier feedback inputs. They (See Datasheet)", 9 SENSE2- (in) "Current Sense Comparator Inputs. The (-) inputs to the current comparators are connected to the outputs.", 10 SENSE2+ (in) "Current Sense Comparator Inputs. The (+) inputs to the current comparators are normally connected to DCR sensing networks or current sensing resistors.", 11 RUN2 (in) "Run Control Inputs. A voltage above 1.22V on either pin turns on the IC. However, forcing either of these pins below 1.22V causes the IC to shut down the circuitry required for that particular channel. There are 1uA pull-up (See Datasheet)", 12 VID21 (in) "VID Inputs for Output Voltage Programming. Tie these pins to INTVCC, GND or leave them floating to set the output voltages.", 15 SW2 "Switch Node Connections to Inductors. Voltage swing at these pins is from a Schottky diode (external) voltage drop below ground to VIN.", 16 TG2 (out) "Top Gate Driver Outputs. These are the outputs of floating drivers with a voltage swing equal to INTVCC superimposed on the switch nodes voltages.", 17 BOOST2 "Boosted Floating Driver Supplies. The (+) terminal of the booststrap capacitors connect to these pins. These pins swing from a diode voltage drop below INTVCC up to VIN + INTVCC.", 19 BG2 (out) "Bottom Gate Driver Outputs. These pins drive the gates of the bottom N-channel MOSFETs between PGND and INTVCC.", 28 VID22 (in) "VID Inputs for Output Voltage Programming. Tie these pins to INTVCC, GND or leave them floating to set the output voltages."
part C pins: 13 ILIM (in) "Current Comparator Sense Voltage Range Inputs. This pin can be tied to SGND, FLOAT or INTVCC to set the maximum current sense threshold for each comparator. Current comparator sense voltage range of the LTC3865-1 is set to (See Datasheet)", 14 PGOOD (oc) "Co-Bonded Power Good Indicator Output for LTC3865 in QFN Package. Open-drain logic output that is pulled to ground when either channel output exceeds +/-10% regulation window, after the internal 20us power bad mask timer (See Datasheet)", 18 PGND (power) "Power Ground Pin. Connect this pin closely to the sources of the bottom N-channel MOSFETs, the (-) terminal of CVCC and the (-) terminal of CIN.", 20 EXTVCC (power) "External Power Input to an Internal Switch Connected to INTVCC. This switch closes and supplies the IC power, bypassing the internal low dropout regulator, whenever EXTVCC is higher than 4.7V. Do not exceed 6V on this pin.", 21 INTVCC (power) "Internal 5V Regulator Output. The control circuits are powered from this voltage. Decouple this pin to PGND with a minimum of 4.7uF low ESR tantalum or ceramic capacitor.", 22 VIN (power) "Main Input Supply. Decouple this pin to PGND with a capacitor (0.1uF to 1uF).", 27 MODE/PLLIN (in), 29 FREQ (in) "This pin sets the frequency of the internal oscillator. A constant current of 7.5uA is flowing out of this pin and a resistor connected to this pin sets its DC voltage, which in turn, sets the frequency of the internal (See Datasheet)", 33 EP (power) "Pin 33 is the Exposed Pad and available for QFN package."